# EAGLE library part 50238-060 (library con-aces-50238-series)
ACES CONNECTORS 50238 SERIES ACES Connecors 50238 <https://www.acesconn.com/tw/series/50238-xxxxx-xxx/1290>
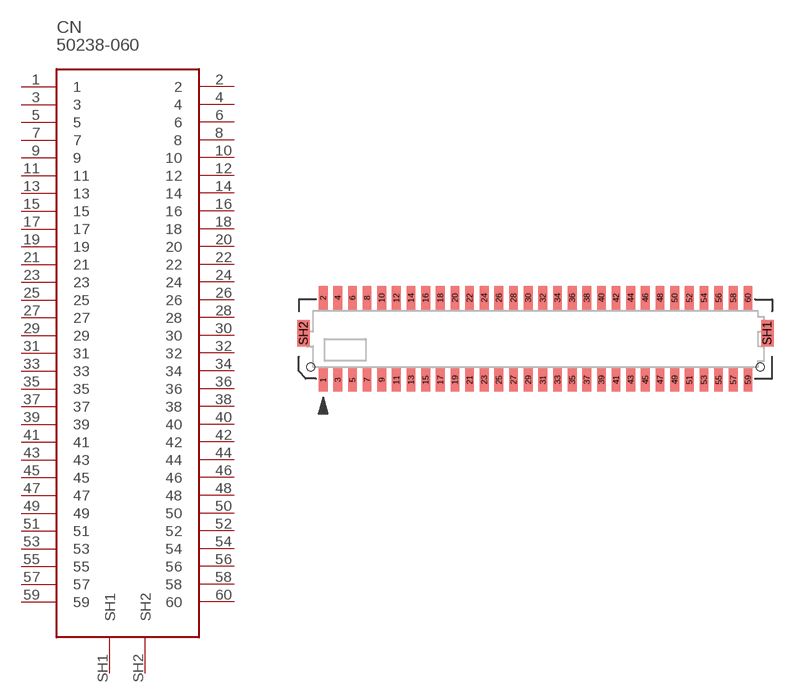
[diagram p13: symbol with the pads of 50238-060; footprint 50238-060]

Designator prefix CN

## 50238-060  [50238-060]
1  1
2  2
3  3
4  4
5  5
6  6
7  7
8  8
9  9
10  10
11  11
12  12
13  13
14  14
15  15
16  16
17  17
18  18
19  19
20  20
21  21
22  22
23  23
24  24
25  25
26  26
27  27
28  28
29  29
30  30
31  31
32  32
33  33
34  34
35  35
36  36
37  37
38  38
39  39
40  40
41  41
42  42
43  43
44  44
45  45
46  46
47  47
48  48
49  49
50  50
51  51
52  52
53  53
54  54
55  55
56  56
57  57
58  58
59  59
60  60
SH1  SH1
SH2  SH2

## Footprint 50238-060 (pad centres in mm)
smd 0.6 x 1.6: 1 -14,-2.8; 2 -14,2.8; 3 -13,-2.8; 4 -13,2.8; 5 -12,-2.8; 6 -12,2.8; 7 -11,-2.8; 8 -11,2.8; 9 -10,-2.8; 10 -10,2.8; 11 -9,-2.8; 12 -9,2.8; 13 -8,-2.8; 14 -8,2.8; 15 -7,-2.8; 16 -7,2.8; 17 -6,-2.8; 18 -6,2.8; 19 -5,-2.8; 20 -5,2.8; 21 -4,-2.8; 22 -4,2.8; 23 -3,-2.8; 24 -3,2.8; 25 -2,-2.8; 26 -2,2.8; 27 -1,-2.8; 28 -1,2.8; 29 0,-2.8; 30 0,2.8; 31 1,-2.8; 32 1,2.8; 33 2,-2.8; 34 2,2.8; 35 3,-2.8; 36 3,2.8; 37 4,-2.8; 38 4,2.8; 39 5,-2.8; 40 5,2.8; 41 6,-2.8; 42 6,2.8; 43 7,-2.8; 44 7,2.8; 45 8,-2.8; 46 8,2.8; 47 9,-2.8; 48 9,2.8; 49 10,-2.8; 50 10,2.8; 51 11,-2.8; 52 11,2.8; 53 12,-2.8; 54 12,2.8; 55 13,-2.8; 56 13,2.8; 57 14,-2.8; 58 14,2.8; 59 15,-2.8; 60 15,2.8
smd 0.85 x 1.8: SH1 16.325,0.4; SH2 -15.325,0.4
hole 0.55 at -14.85,-1.9
hole 0.55 at 15.85,-1.9